# Altium footprint library R1210-STD.PcbLib: 1 footprints
Each footprint in its own frame and in the unit in brackets; x right, y up, seen from the top. Pads: shape width x height; smd on the part's side, far side on the other; paste and mask are expansions set on the pad; w line width, h text height; cw(c..) or ccw(c..) is an arc to the next point about the centre after c.
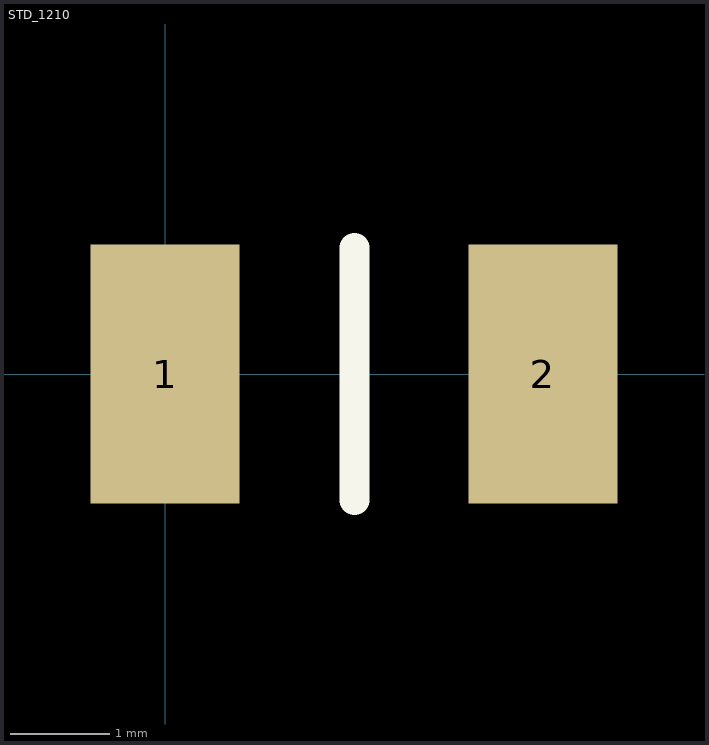
[diagram p0: the footprint, top view; thin cyan lines are the x and y axes]

## STD_1210 [mm]
pads (2):
  rect 1.5x2.6 smd: 1(0,0) 2(3.8,0)
Top Overlay:
  lines w0.3: 1.905,-1.27 1.905,1.27
3D body: height 0.6, standoff 0, extent 0.305,-1.25 3.505,1.25